# EAGLE library part SC16IS740 (library laforge)
NXP SC16IS740 SPI/I2C UART
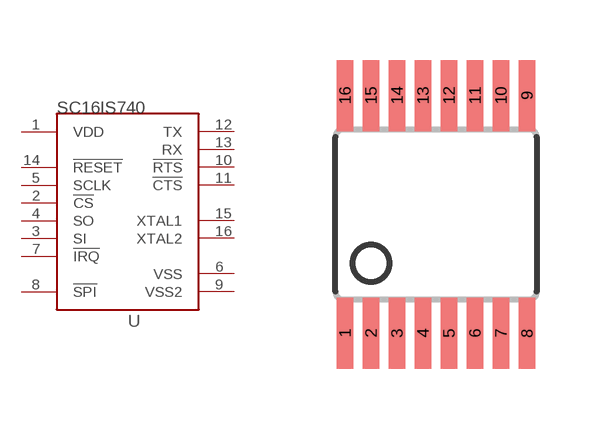
[diagram p18: symbol with the pads of TSSOP16L; footprint TSSOP16L]

Designator prefix -

## SC16IS740 (OC_DIGIKEY: 568-6674-1-ND)  [TSSOP16L]
1  VDD  pwr
2  !CS  in
3  SI  in
4  SO  out
5  SCLK  in
6  VSS  pas
7  !IRQ  out
8  !SPI  in
9  VSS2  pas
10  !RTS  out
11  !CTS  in
12  TX  out
13  RX  in
14  !RESET  in
15  XTAL1  pas
16  XTAL2  pas

## Footprint TSSOP16L (pad centres in mm)
MOLDED TSSOP JEDEC, 5 x 4.4 x 9.9 mm Body 16 LD, 0.65mm Pitch Source: http://www.national.com/packaging/mkt/mtc16.pdf
smd 0.42 x 1.78: 1 -2.275,-2.97; 2 -1.625,-2.97; 3 -0.975,-2.97; 4 -0.325,-2.97; 5 0.325,-2.97; 6 0.975,-2.97; 7 1.625,-2.97; 8 2.275,-2.97; 9 2.275,2.97; 10 1.625,2.97; 11 0.975,2.97; 12 0.325,2.97; 13 -0.325,2.97; 14 -0.975,2.97; 15 -1.625,2.97; 16 -2.275,2.97